# EAGLE library part BM83SM1-00AA (library BM83SM1-00AA)
Check availability <https://pricing.snapeda.com/parts/BM83SM1-00AA/Microchip%20Technology/view-part?ref=eda>
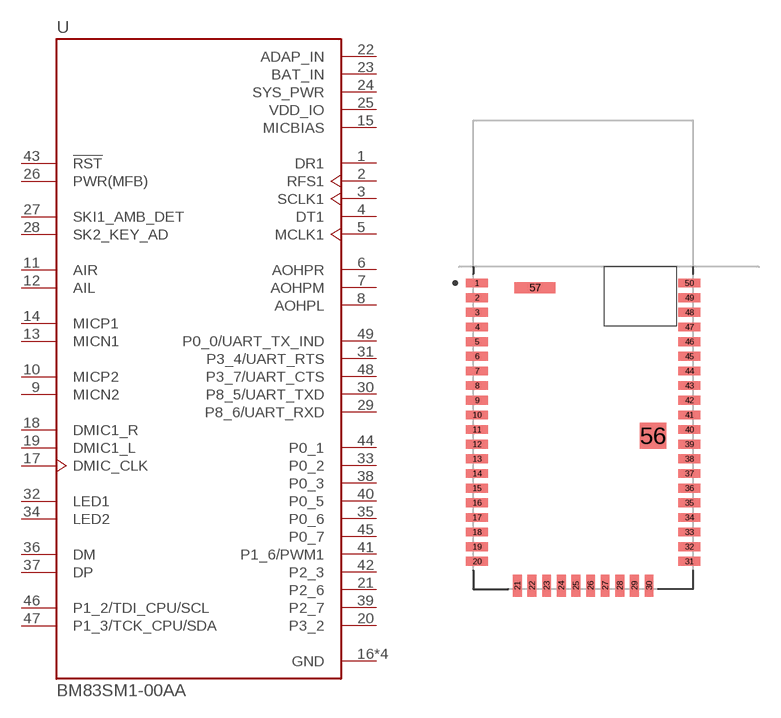
[diagram p0: symbol with the pads of XCVR_BM83SM1-00AA; footprint XCVR_BM83SM1-00AA]

Designator prefix U

## BM83SM1-00AA (Availability: In Stock; Check_prices: https://www.snapeda.com/parts/BM83SM1-00AA/Microchip+Technology/view-part/?ref=eda; Description: Bluetooth Bluetooth v5.0 Transceiver Module 2.4GHz ~ 2.48GHz PCB Trace Surface Mount; MF: Microchip Technology; MP: BM83SM1-00AA; Package: None; Price: None; SnapEDA_Link: https://www.snapeda.com/parts/BM83SM1-00AA/Microchip+Technology/view-part/?ref=snap)  [XCVR_BM83SM1-00AA]
1  DR1  in
2  RFS1
3  SCLK1
4  DT1  out
5  MCLK1  out
6  AOHPR  out
7  AOHPM  out
8  AOHPL  out
9  MICN2  in
10  MICP2  in
11  AIR  in
12  AIL  in
13  MICN1  in
14  MICP1  in
15  MICBIAS  pwr
16  GND  pwr
17  DMIC_CLK  out
18  DMIC1_R  in
19  DMIC1_L  in
20  P3_2
21  P2_6
22  ADAP_IN  in
23  BAT_IN  in
24  SYS_PWR  pwr
25  VDD_IO  pwr
26  PWR(MFB)  in
27  SKI1_AMB_DET  in
28  SK2_KEY_AD  in
29  P8_6/UART_RXD
30  P8_5/UART_TXD
31  P3_4/UART_RTS
32  LED1  in
33  P0_2
34  LED2  in
35  P0_6
36  DM
37  DP
38  P0_3
39  P2_7
40  P0_5
41  P1_6/PWM1
42  P2_3
43  !RST  in
44  P0_1
45  P0_7
46  P1_2/TDI_CPU/SCL
47  P1_3/TCK_CPU/SDA
48  P3_7/UART_CTS
49  P0_0/UART_TX_IND
50  GND  pwr
56  GND  pwr
57  GND  pwr

## Footprint XCVR_BM83SM1-00AA (pad centres in mm)
smd 1.5 x 0.6: 1 -7.25,4.9; 2 -7.25,3.9; 3 -7.25,2.9; 4 -7.25,1.9; 5 -7.25,0.9; 6 -7.25,-0.1; 7 -7.25,-1.1; 8 -7.25,-2.1; 9 -7.25,-3.1; 10 -7.25,-4.1; 11 -7.25,-5.1; 12 -7.25,-6.1; 13 -7.25,-7.1; 14 -7.25,-8.1; 15 -7.25,-9.1; 16 -7.25,-10.1; 17 -7.25,-11.1; 18 -7.25,-12.1; 19 -7.25,-13.1; 20 -7.25,-14.1; 31 7.25,-14.1; 32 7.25,-13.1; 33 7.25,-12.1; 34 7.25,-11.1; 35 7.25,-10.1; 36 7.25,-9.1; 37 7.25,-8.1; 38 7.25,-7.1; 39 7.25,-6.1; 40 7.25,-5.1; 41 7.25,-4.1; 42 7.25,-3.1; 43 7.25,-2.1; 44 7.25,-1.1; 45 7.25,-0.1; 46 7.25,0.9; 47 7.25,1.9; 48 7.25,2.9; 49 7.25,3.9; 50 7.25,4.9
smd 0.6 x 1.5: 21 -4.5,-15.75; 22 -3.5,-15.75; 23 -2.5,-15.75; 24 -1.5,-15.75; 25 -0.5,-15.75; 26 0.5,-15.75; 27 1.5,-15.75; 28 2.5,-15.75; 29 3.5,-15.75; 30 4.5,-15.75
smd 1.78 x 1.78: 56 4.77,-5.53
smd 2.79 x 0.76: 57 -3.29,4.58